# Altium schematic symbol library STUSB4700.SchLib: 1 symbol
Pins are listed as number, name and electrical type; pins without a type are passive.

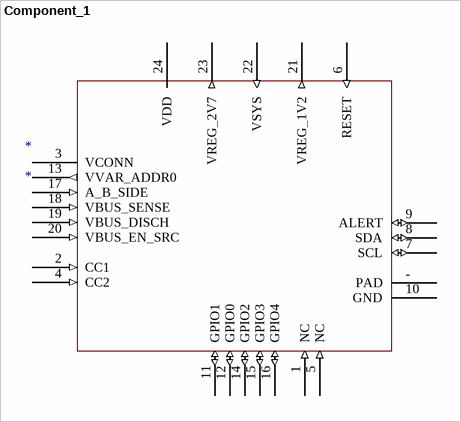
[diagram p0: symbol Component_1]

## Component_1
designator *
ComponentLink1Description: DATASHEET; ComponentLink1URL: https://www.st.com/resource/en/datasheet/stusb4700.pdf
footprint QFN50P400X400X80_HS-25N (QFN, 24-Leads, Body 4,00x4,00mm, Pitch 0,50mm, Thermal Pad 2,68x2,68mm, IPC Medium Density)
pins: 1 NC (in), 2 CC1 (in), 3 VCONN (power) "5V POWER SOURCE", 4 CC2 (in), 5 NC (in), 6 RESET (in), 7 SCL (io) "NEED PULLUP", 8 SDA (io) "NEED PULLUP", 9 ALERT (io) "I2C INTERUPT", 10 GND (power), 11 GPIO1 (io), 12 GPIO0 (io), 13 VVAR_ADDR0 (out) "VARIBALE VOLTAGE OUTPUT I2C", 14 GPIO2 (io), 15 GPIO3 (io), 16 GPIO4 (io), 17 A_B_SIDE (in) "CABLE ORIENTATION", 18 VBUS_SENSE (in), 19 VBUS_DISCH (in), 20 VBUS_EN_SRC (in), 21 VREG_1V2 (out) "1V2 LDO", 22 VSYS (in) "PSU SYSTEM", 23 VREG_2V7 (out) "2V7 LDO", 24 VDD (power) "POWER FROM USB", - PAD (power) "EXPOSED PAD"